# Altium footprint library Header.PcbLib: 119 footprints (part 5 of 8)
Each footprint in its own frame and in the unit in brackets; x right, y up, seen from the top. Pads: shape width x height; smd on the part's side, far side on the other; paste and mask are expansions set on the pad; w line width, h text height; cw(c..) or ccw(c..) is an arc to the next point about the centre after c.
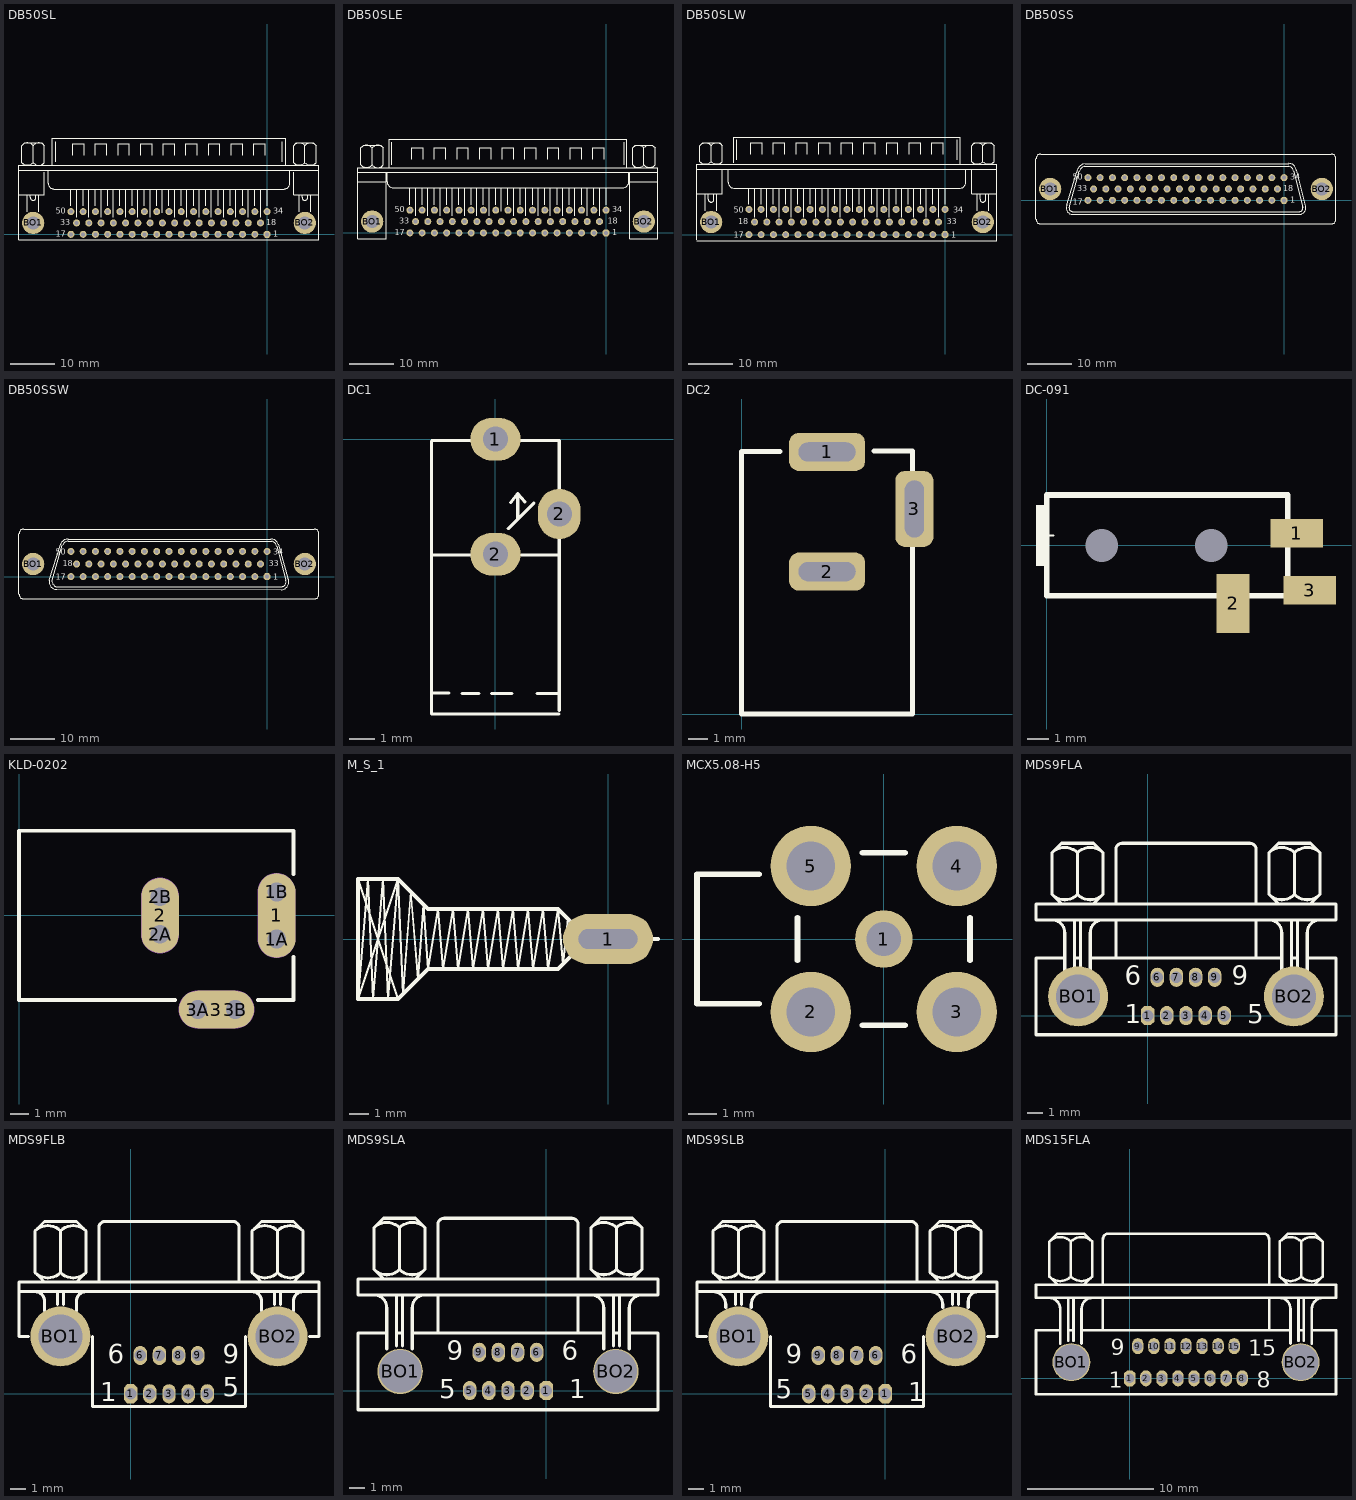
[diagram p4: the footprints below, top view; thin cyan lines are the x and y axes]

## DB50SL [mil]
pads (52):
  oct 62x62 hole 35: 1(0,0)
  round 62 hole 35: 2(-108.33,0) 3(-216.67,0) 4(-325,0) 5(-433.33,0) 6(-541.67,0) 7(-650,0) 8(-758.33,0) 9(-866.67,0) 10(-975,0) 11(-1083.33,0) 12(-1191.67,0) 13(-1300,0) 14(-1408.33,0) 15(-1516.67,0) 16(-1625,0) 17(-1733.33,0) 18(-58.33,100) 19(-166.67,100) 20(-275,100) 21(-383.33,100) 22(-491.67,100) 23(-600,100) 24(-708.33,100) 25(-816.67,100) 26(-925,100) 27(-1033.33,100) 28(-1141.67,100) 29(-1250,100) 30(-1358.33,100) 31(-1466.67,100) 32(-1575,100) 33(-1683.33,100) 34(0,200) 35(-108.33,200) 36(-216.67,200) 37(-325,200) 38(-433.33,200) 39(-541.67,200) 40(-650,200) 41(-758.33,200) 42(-866.67,200) 43(-975,200) 44(-1083.33,200) 45(-1191.67,200) 46(-1300,200) 47(-1408.33,200) 48(-1516.67,200) 49(-1625,200) 50(-1733.33,200)
  round 196.67 hole 118.33: BO1(-2066.67,100) BO2(333.33,100)
Top Overlay:
  lines w8: -2191.67,350 -1966.67,350 -1966.67,550 ; -2191.67,566.67 458.33,566.67 ; -2166.75,633.25 ccw(c-2116.67,683.33) -2066.58,633.25 ; -2166.46,783.45 cw(c-2116.67,741.67) -2066.87,783.45 ; -2141.67,608.33 -2166.67,633.33 -2166.67,783.33 -2141.67,808.33 -1991.67,808.33 -1966.67,783.33 -1966.67,633.33 -1991.67,608.33 ; -2116.67,200 -2116.67,350 ; -2091.67,350 -2091.67,325 ccw(c-2066.67,325) -2041.67,325 -2041.67,350 ; -2066.67,633.33 -2066.67,783.33 ; -2066.46,633.22 ccw(c-2016.67,675) -1966.87,633.22 ; -2066.46,783.45 cw(c-2016.67,741.67) -1966.87,783.45 ; -2016.67,200 -2016.67,350 ; -1933.33,566.67 -1933.33,450 ccw(c-1883.33,450) -1883.33,400 150,400 ccw(c150,450) 200,450 200,566.67 ; -1900,608.33 -1900,850 166.67,850 166.67,608.33 ; -1866.67,641.67 -1866.67,816.67 ; -1733.33,250 -1733.33,400 ; -1716.67,700 -1716.67,800 -1616.67,800 -1616.67,700 ; -1683.33,150 -1683.33,400 ; -1625,250 -1625,400 ; -1575,150 -1575,400 ; -1516.67,250 -1516.67,400 ; -1516.67,700 -1516.67,800 -1416.67,800 -1416.67,700 ; -1466.67,150 -1466.67,400 ; -1408.33,250 -1408.33,400 ; -1358.33,150 -1358.33,400 ; -1316.67,700 -1316.67,800 -1216.67,800 -1216.67,700 ; -1300,250 -1300,400 ; -1250,150 -1250,400 ; -1191.67,250 -1191.67,400 ; -1141.67,150 -1141.67,400 ; -1116.67,700 -1116.67,800 -1016.67,800 -1016.67,700 ; -1083.33,250 -1083.33,400 ; -1033.33,150 -1033.33,400 ; -975,250 -975,400 ; -925,191.67 -925,400 ; -916.67,700 -916.67,800 -816.67,800 -816.67,700 ; -866.67,250 -866.67,400 ; -816.67,150 -816.67,400 ; -758.33,250 -758.33,400 ; -716.67,700 -716.67,800 -616.67,800 -616.67,700 ; -708.33,150 -708.33,400 ; -650,250 -650,400 ; -600,150 -600,400 ; -541.67,250 -541.67,400 ; -516.67,700 -516.67,800 -416.67,800 -416.67,700 ; -491.67,150 -491.67,400 ; -433.33,250 -433.33,400 ; -383.33,150 -383.33,400 ; -325,250 -325,400 ; -316.67,700 -316.67,800 -216.67,800 -216.67,700 ; -275,150 -275,400 ; -216.67,250 -216.67,400 ; -166.67,150 -166.67,400 ; -116.67,700 -116.67,800 -16.67,800 -16.67,700 ; -108.33,250 -108.33,400 ; -58.33,150 -58.33,400 ; 0,250 0,400 ; 133.33,641.67 133.33,816.67 ; 233.25,633.25 ccw(c283.33,683.33) 333.42,633.25 ; 233.25,783.42 cw(c283.33,733.33) 333.42,783.42 ; 233.33,550 233.33,350 458.33,350 ; 258.33,608.33 250,616.67 233.33,633.33 233.33,783.33 258.33,808.33 408.33,808.33 433.33,783.33 433.33,633.33 408.33,608.33 ; 283.33,200 283.33,350 ; 308.33,350 308.33,325 ccw(c333.33,325) 358.33,325 358.33,350 ; 333.25,633.25 ccw(c383.33,683.33) 433.42,633.25 ; 333.25,783.42 cw(c383.33,733.33) 433.42,783.42 ; 333.33,633.33 333.33,783.33 ; 383.33,200 383.33,350 ; -2191.67,-50 -2191.67,608.33 458.33,608.33 458.33,-50 -2191.67,-50
  text "50" at -1866.67,180 h50
  text "33" at -1826.67,80 h50
  text "17" at -1866.67,-20 h50
  text "1" at 53.33,-20 h50
  text "18" at -6.67,80 h50
  text "34" at 53.33,180 h50

## DB50SLE [mil]
pads (52):
  oct 62x62 hole 35: 1(0,0)
  round 62 hole 35: 2(-108.33,0) 3(-216.67,0) 4(-325,0) 5(-433.33,0) 6(-541.67,0) 7(-650,0) 8(-758.33,0) 9(-866.67,0) 10(-975,0) 11(-1083.33,0) 12(-1191.67,0) 13(-1300,0) 14(-1408.33,0) 15(-1516.67,0) 16(-1625,0) 17(-1733.33,0) 18(-58.33,100) 19(-166.67,100) 20(-275,100) 21(-383.33,100) 22(-491.67,100) 23(-600,100) 24(-708.33,100) 25(-816.67,100) 26(-925,100) 27(-1033.33,100) 28(-1141.67,100) 29(-1250,100) 30(-1358.33,100) 31(-1466.67,100) 32(-1575,100) 33(-1683.33,100) 34(0,200) 35(-108.33,200) 36(-216.67,200) 37(-325,200) 38(-433.33,200) 39(-541.67,200) 40(-650,200) 41(-758.33,200) 42(-866.67,200) 43(-975,200) 44(-1083.33,200) 45(-1191.67,200) 46(-1300,200) 47(-1408.33,200) 48(-1516.67,200) 49(-1625,200) 50(-1733.33,200)
  round 196.67 hole 118.33: BO1(-2066.67,100) BO2(333.33,100)
Top Overlay:
  lines w8: -2191.67,450 -1941.67,450 ; -2191.67,533.33 458.33,533.33 ; -2166.75,599.91 ccw(c-2116.67,650) -2066.58,599.91 ; -2166.46,750.11 cw(c-2116.67,708.33) -2066.87,750.11 ; -2141.67,575 -2166.67,600 -2166.67,750 -2141.67,775 -1991.67,775 -1966.67,750 -1966.67,600 -1991.67,575 ; -2066.67,600 -2066.67,750 ; -2066.46,599.88 ccw(c-2016.67,641.67) -1966.87,599.88 ; -2066.46,750.11 cw(c-2016.67,708.33) -1966.87,750.11 ; -1941.67,533.33 -1941.67,-50 -2191.67,-50 -2191.67,575 458.33,575 458.33,-50 208.33,-50 208.33,533.33 ; -1933.33,533.33 -1933.33,450 ccw(c-1883.33,450) -1883.33,400 150,400 ccw(c150,450) 200,450 200,533.33 ; -1916.67,575 -1916.67,825 183.33,825 183.33,575 ; -1891.67,600 -1891.67,800 ; -1733.33,250 -1733.33,400 ; -1716.67,650 -1716.67,750 -1616.67,750 -1616.67,650 ; -1683.33,150 -1683.33,400 ; -1625,250 -1625,400 ; -1575,150 -1575,400 ; -1516.67,250 -1516.67,400 ; -1516.67,650 -1516.67,750 -1416.67,750 -1416.67,650 ; -1466.67,150 -1466.67,400 ; -1408.33,250 -1408.33,400 ; -1358.33,150 -1358.33,400 ; -1316.67,650 -1316.67,750 -1216.67,750 -1216.67,650 ; -1300,250 -1300,400 ; -1250,150 -1250,400 ; -1191.67,250 -1191.67,400 ; -1141.67,150 -1141.67,400 ; -1116.67,650 -1116.67,750 -1016.67,750 -1016.67,650 ; -1083.33,250 -1083.33,400 ; -1033.33,150 -1033.33,400 ; -975,250 -975,400 ; -925,191.67 -925,400 ; -916.67,650 -916.67,750 -816.67,750 -816.67,650 ; -866.67,250 -866.67,400 ; -816.67,150 -816.67,400 ; -758.33,250 -758.33,400 ; -716.67,650 -716.67,750 -616.67,750 -616.67,650 ; -708.33,150 -708.33,400 ; -650,250 -650,400 ; -600,150 -600,400 ; -541.67,250 -541.67,400 ; -516.67,650 -516.67,750 -416.67,750 -416.67,650 ; -491.67,150 -491.67,400 ; -433.33,250 -433.33,400 ; -383.33,150 -383.33,400 ; -325,250 -325,400 ; -316.67,650 -316.67,750 -216.67,750 -216.67,650 ; -275,150 -275,400 ; -216.67,250 -216.67,400 ; -166.67,150 -166.67,400 ; -116.67,650 -116.67,750 -16.67,750 -16.67,650 ; -108.33,250 -108.33,400 ; -58.33,150 -58.33,400 ; 0,250 0,400 ; 158.33,600 158.33,800 ; 208.33,450 458.33,450 ; 233.25,599.91 ccw(c283.33,650) 333.42,599.91 ; 233.25,750.09 cw(c283.33,700) 333.42,750.09 ; 258.33,575 233.33,600 233.33,750 258.33,775 408.33,775 433.33,750 433.33,600 408.33,575 ; 333.25,599.91 ccw(c383.33,650) 433.42,599.91 ; 333.25,750.09 cw(c383.33,700) 433.42,750.09 ; 333.33,600 333.33,750
  text "34" at 53.33,180 h50
  text "18" at 13.33,80 h50
  text "1" at 53.33,-20 h50
  text "17" at -1866.67,-20 h50
  text "33" at -1826.67,80 h50
  text "50" at -1866.67,180 h50

## DB50SLW [mil]
pads (52):
  oct 62x62 hole 35: 1(0,0)
  round 62 hole 35: 2(-108.33,0) 3(-216.67,0) 4(-325,0) 5(-433.33,0) 6(-541.67,0) 7(-650,0) 8(-758.33,0) 9(-866.67,0) 10(-975,0) 11(-1083.33,0) 12(-1191.67,0) 13(-1300,0) 14(-1408.33,0) 15(-1516.67,0) 16(-1625,0) 17(-1733.33,0) 18(-1683.33,111.67) 19(-1575,111.67) 20(-1466.67,111.67) 21(-1358.33,111.67) 22(-1250,111.67) 23(-1141.67,111.67) 24(-1033.33,111.67) 25(-925,111.67) 26(-816.67,111.67) 27(-708.33,111.67) 28(-600,111.67) 29(-491.67,111.67) 30(-383.33,111.67) 31(-275,111.67) 32(-166.67,111.67) 33(-58.33,111.67) 34(0,223.33) 35(-108.33,223.33) 36(-216.67,223.33) 37(-325,223.33) 38(-433.33,223.33) 39(-541.67,223.33) 40(-650,223.33) 41(-758.33,223.33) 42(-866.67,223.33) 43(-975,223.33) 44(-1083.33,223.33) 45(-1191.67,223.33) 46(-1300,223.33) 47(-1408.33,223.33) 48(-1516.67,223.33) 49(-1625,223.33) 50(-1733.33,223.33)
  round 196.67 hole 118.33: BO1(-2066.67,111.67) BO2(333.33,111.67)
Top Overlay:
  lines w8: -2191.67,-55 458.33,-55 458.33,620 -2191.67,620 -2191.67,-46.67 ; -2191.67,361.67 -1966.67,361.67 -1966.67,578.33 ; -2191.67,578.33 458.33,578.33 ; -2166.75,644.91 ccw(c-2116.67,695) -2066.58,644.91 ; -2166.75,786.75 cw(c-2116.67,736.67) -2066.58,786.75 ; -2141.67,620 -2166.67,645 -2166.67,786.67 -2141.67,811.67 -1991.67,811.67 -1966.67,786.67 -1966.67,778.33 -1966.67,645 -1991.67,620 ; -2116.67,211.67 -2116.67,361.67 ; -2091.67,361.67 -2091.67,311.67 ccw(c-2066.67,311.67) -2041.67,311.67 -2041.67,361.67 ; -2066.75,644.91 ccw(c-2016.67,695) -1966.58,644.91 ; -2066.75,786.75 cw(c-2016.67,736.67) -1966.58,786.75 ; -2066.67,645 -2066.67,786.67 ; -2016.67,211.67 -2016.67,361.67 ; -1916.67,578.33 -1916.67,461.67 ccw(c-1866.67,461.67) -1866.67,411.67 133.33,411.67 ccw(c133.33,461.67) 183.33,461.67 183.33,578.33 ; -1866.67,636.67 -1866.67,861.67 133.33,861.67 133.33,620 ; -1841.67,661.67 -1841.67,836.67 ; -1733.33,270 -1733.33,411.67 ; -1716.67,711.67 -1716.67,811.67 -1616.67,811.67 -1616.67,711.67 ; -1683.33,153.33 -1683.33,411.67 ; -1625,270 -1625,411.67 ; -1575,153.33 -1575,411.67 ; -1516.67,270 -1516.67,411.67 ; -1516.67,711.67 -1516.67,811.67 -1416.67,811.67 -1416.67,711.67 ; -1466.67,153.33 -1466.67,411.67 ; -1408.33,270 -1408.33,411.67 ; -1358.33,153.33 -1358.33,411.67 ; -1316.67,711.67 -1316.67,811.67 -1216.67,811.67 -1216.67,711.67 ; -1300,270 -1300,411.67 ; -1250,153.33 -1250,411.67 ; -1191.67,270 -1191.67,411.67 ; -1141.67,153.33 -1141.67,411.67 ; -1116.67,711.67 -1116.67,811.67 -1016.67,811.67 -1016.67,711.67 ; -1083.33,270 -1083.33,411.67 ; -1033.33,153.33 -1033.33,411.67 ; -975,270 -975,411.67 ; -925,153.33 -925,411.67 ; -916.67,711.67 -916.67,811.67 -816.67,811.67 -816.67,711.67 ; -866.67,270 -866.67,411.67 ; -816.67,203.33 -816.67,411.67 ; -758.33,270 -758.33,411.67 ; -716.67,711.67 -716.67,811.67 -616.67,811.67 -616.67,711.67 ; -708.33,153.33 -708.33,411.67 ; -650,270 -650,411.67 ; -600,153.33 -600,411.67 ; -541.67,270 -541.67,411.67 ; -516.67,711.67 -516.67,811.67 -416.67,811.67 -416.67,711.67 ; -491.67,153.33 -491.67,411.67 ; -433.33,270 -433.33,411.67 ; -383.33,153.33 -383.33,411.67 ; -325,270 -325,411.67 ; -316.67,711.67 -316.67,811.67 -216.67,811.67 -216.67,711.67 ; -275,153.33 -275,411.67 ; -216.67,270 -216.67,411.67 ; -166.67,153.33 -166.67,411.67 ; -116.67,711.67 -116.67,811.67 -16.67,811.67 -16.67,711.67 ; -108.33,270 -108.33,411.67 ; -58.33,153.33 -58.33,411.67 ; 0,270 0,411.67 ; 108.33,661.67 108.33,836.67 ; 233.25,644.91 ccw(c283.33,695) 333.42,644.91 ; 233.25,786.75 cw(c283.33,736.67) 333.42,786.75 ; 233.33,578.33 233.33,361.67 458.33,361.67 ; 258.33,620 233.33,645 233.33,786.67 258.33,811.67 408.33,811.67 433.33,786.67 433.33,778.33 433.33,645 408.33,620 ; 283.33,211.67 283.33,361.67 ; 308.33,361.67 308.33,311.67 ccw(c333.33,311.67) 358.33,311.67 358.33,361.67 ; 333.25,644.91 ccw(c383.33,695) 433.42,644.91 ; 333.25,786.75 cw(c383.33,736.67) 433.42,786.75 ; 333.33,645 333.33,786.67 ; 383.33,211.67 383.33,361.67
  text "34" at 73.33,191.67 h50
  text "33" at 13.33,91.67 h50
  text "1" at 53.33,-28.33 h50
  text "17" at -1866.67,-28.33 h50
  text "18" at -1826.67,91.67 h50
  text "50" at -1866.67,191.67 h50

## DB50SS [mil]
pads (52):
  oct 62x62 hole 35: 1(0,0)
  round 62 hole 35: 2(-108.33,0) 3(-216.67,0) 4(-325,0) 5(-433.33,0) 6(-541.67,0) 7(-650,0) 8(-758.33,0) 9(-866.67,0) 10(-975,0) 11(-1083.33,0) 12(-1191.67,0) 13(-1300,0) 14(-1408.33,0) 15(-1516.67,0) 16(-1625,0) 17(-1733.33,0) 18(-58.33,100) 19(-166.67,100) 20(-275,100) 21(-383.33,100) 22(-491.67,100) 23(-600,100) 24(-708.33,100) 25(-816.67,100) 26(-925,100) 27(-1033.33,100) 28(-1141.67,100) 29(-1250,100) 30(-1358.33,100) 31(-1466.67,100) 32(-1575,100) 33(-1683.33,100) 34(0,200) 35(-108.33,200) 36(-216.67,200) 37(-325,200) 38(-433.33,200) 39(-541.67,200) 40(-650,200) 41(-758.33,200) 42(-866.67,200) 43(-975,200) 44(-1083.33,200) 45(-1191.67,200) 46(-1300,200) 47(-1408.33,200) 48(-1516.67,200) 49(-1625,200) 50(-1733.33,200)
  round 196.67 hole 118.33: BO1(-2066.67,100) BO2(333.33,100)
Top Overlay:
  lines w8: -1920,-41.67 -1833.33,250 ; -1918.64,-40.18 ccw(c-1866.67,-66.67) -1866.67,-125 133.33,-125 ccw(c133.33,-66.67) 189.41,-50.59 ; -1833.58,249.54 cw(c-1741.67,233.33) -1765.82,323.49 ; -1808.33,258.33 -1900,-66.67 ccw(c-1866.67,-66.67) -1866.67,-100 133.33,-100 ccw(c133.33,-66.67) 165.04,-56.37 ; -1807.79,258.72 cw(c-1741.67,233.33) -1767.05,299.46 ; -1766.67,300 41.67,300 ; -1758.33,325 41.67,325 ; 41.29,300.21 cw(c33.33,250) 83.54,257.95 ; 41.67,325.83 cw(c41.67,258.33) 108.66,266.56 ; 83.33,258.33 166.67,-66.67 ; 108.33,266.67 188.33,-51.67 ; -2191.66,-166.67 ccw(c-2150,-166.67) -2150,-208.33 416.67,-208.33 ccw(c416.67,-166.67) 458.33,-166.67 458.33,366.67 ccw(c416.67,366.67) 416.67,408.33 -2150,408.33 ccw(c-2150,366.67) -2191.66,366.67 -2191.67,-166.67
  text "50" at -1866.67,180 h50
  text "33" at -1826.67,80 h50
  text "17" at -1866.67,-40 h50
  text "1" at 53.33,-20 h50
  text "18" at -6.67,80 h50
  text "34" at 53.33,180 h50

## DB50SSW [mil]
pads (52):
  oct 62x62 hole 35: 1(0,0)
  round 62 hole 35: 2(-108.33,0) 3(-216.67,0) 4(-325,0) 5(-433.33,0) 6(-541.67,0) 7(-650,0) 8(-758.33,0) 9(-866.67,0) 10(-975,0) 11(-1083.33,0) 12(-1191.67,0) 13(-1300,0) 14(-1408.33,0) 15(-1516.67,0) 16(-1625,0) 17(-1733.33,0) 18(-1683.33,111.67) 19(-1575,111.67) 20(-1466.67,111.67) 21(-1358.33,111.67) 22(-1250,111.67) 23(-1141.67,111.67) 24(-1033.33,111.67) 25(-925,111.67) 26(-816.67,111.67) 27(-708.33,111.67) 28(-600,111.67) 29(-491.67,111.67) 30(-383.33,111.67) 31(-275,111.67) 32(-166.67,111.67) 33(-58.33,111.67) 34(0,223.33) 35(-108.33,223.33) 36(-216.67,223.33) 37(-325,223.33) 38(-433.33,223.33) 39(-541.67,223.33) 40(-650,223.33) 41(-758.33,223.33) 42(-866.67,223.33) 43(-975,223.33) 44(-1083.33,223.33) 45(-1191.67,223.33) 46(-1300,223.33) 47(-1408.33,223.33) 48(-1516.67,223.33) 49(-1625,223.33) 50(-1733.33,223.33)
  round 196.67 hole 118.33: BO1(-2066.67,111.67) BO2(333.33,111.67)
Top Overlay:
  lines w8: -1923.33,-31.67 -1825,286.67 ; -1923.02,-30.54 ccw(c-1858.33,-46.67) -1858.33,-113.33 125,-115 ; -1900.21,-30.38 ccw(c-1850,-38.33) -1859.7,-88.23 ; -1900,-30 -1808.33,278.33 ; -1866.67,-88.33 133.33,-88.33 ; -1824.46,287.05 cw(c-1758.33,261.67) -1758.33,332.5 ; -1804.69,280.4 cw(c-1758.33,261.67) -1758.33,311.67 41.67,311.67 ; -1758.33,331.67 33.33,331.67 ; 33.33,332.5 cw(c33.33,261.67) 99.46,287.05 ; 40.41,312 cw(c33.33,261.67) 83.54,269.62 ; 83.33,270 166.67,-30 ; 100,286.67 183.33,-13.33 ; 125,-114.17 ccw(c125,-46.67) 183.46,-12.92 ; 133.11,-88.39 ccw(c125,-46.67) 164.41,-30.75 ; -2191.66,-155 ccw(c-2150,-155) -2150,-196.67 416.67,-196.67 ccw(c416.67,-155) 458.33,-155 458.33,378.33 ccw(c416.67,378.33) 416.67,420 -2150,420 ccw(c-2150,378.33) -2191.66,378.33 -2191.67,-155
  text "34" at 53.33,191.67 h50
  text "33" at 13.33,91.67 h50
  text "1" at 53.33,-28.33 h50
  text "18" at -1806.67,91.67 h50
  text "50" at -1866.67,191.67 h50
  text "17" at -1866.67,-28.33 h50

## DC1 [mm]
pads (3):
  oval 2x1.7 hole 1: 1(0,0) 2(0,-4.572)
  oval 1.7x2 hole 1: 2(2.54,-2.972)
Top Overlay:
  lines w0.127: -2.54,-10.084 -1.854,-10.084 ; -2.54,-4.597 -0.94,-4.597 ; -1.321,-10.109 -0.66,-10.109 ; -0.152,-10.109 0.66,-10.109 ; 0.508,-3.556 1.524,-2.54 ; 0.61,-2.515 0.89,-2.158 ; 0.89,-3.174 0.89,-2.158 ; 1.016,-4.597 2.54,-4.597 ; 1.168,-2.489 0.89,-2.16 0.89,-2.158 ; 1.651,-10.109 2.54,-10.109 ; 2.489,-0.051 -2.515,-0.051 -2.54,-0.076 -2.54,-10.922 2.515,-10.922 ; 2.54,-10.77 2.54,-0.051

## DC2 [mm]
pads (3):
  rrect50% 4x2 hole 1 slot 3 at 0 deg: 1(4.5,13.8) 2(4.5,7.5)
  rrect50% 2x4 hole 1 slot 3 at 90 deg: 3(9.1,10.8)
Top Overlay:
  lines w0.254: 2.018,13.818 0,13.818 0,0 9,0 9,8.8 ; 6.957,13.843 9,13.843 9,12.8
3D body: height 11.02, standoff -3.48, extent -0.003,0.017 9.503,13.843

## DC-091 [mm]
pads (5):
  round 0 hole 1.5 mask+0: 0(2.5,0) 0(7.5,0)
  rect 2.4x1.3 smd: 1(11.4,0.55) 3(12,-2.05)
  rect 1.5x2.7 smd: 2(8.5,-2.65)
Top Overlay:
  rectangle: -0.5,-0.95 0.1,1.85
  lines w0.1: -0.2,0.45 0.3,0.45
  lines w0.254: 0,-2.3 0,2.3 11,2.3 11,-2.3 0,-2.3
3D body: height 4.4, standoff -0.8, extent 0.025,-3.875 12.625,2.425

## KLD-0202 [mm] "DC Power Jack, 2.5mm, KLD Series, PCB Mount"
pads (9):
  oval 2x4.5 all layers, no hole: 1(13.7,0)
  round 1.5 hole 1: 1A(13.7,-1.25) 1B(13.7,1.25) 2A(7.5,-1) 2B(7.5,1) 3A(9.5,-5) 3B(11.5,-5)
  oval 2x4 all layers, no hole: 2(7.5,0)
  oval 4x2 all layers, no hole: 3(10.5,-5)
Top Overlay:
  lines w0.2: 8.3,-4.5 0,-4.5 0,4.5 14.6,4.5 14.6,2.2 ; 12.7,-4.5 14.6,-4.5 14.6,-2.2
Mechanical 1:
  lines w1: 7.5,-1 7.5,1 ; 9.5,-5 11.5,-5 ; 13.7,-1.25 13.7,1.25
  text "Mech 2 - Clearance, move to internal plane if present" at 0.286,5.066 h0.3
  text "Mech 1 - Slot cut-out" at 0.286,5.566 h0.3
  text "Assign keep-out area to slot" at 0.286,6.566 h0.3
  text "Alert PCB fab to slot details" at 0.286,6.066 h0.3
Mechanical 2:
  lines w2.016: 7.5,-1 7.5,1 ; 9.5,-5 11.5,-5 ; 13.7,-1.25 13.7,1.25

## M_S_1 [mil] "带弹簧强磁，6mm×18mm×10mm"
pads (1):
  oval 180x100 hole 39.37 slot 118.11 at 0 deg: 1(0,0)
Top Overlay:
  lines w3.94: -500,120 -420,-120 ; -80,40 -90,-50 -100,60 -120,-60 -130,60 -150,-60 -160,60 -180,-60 -190,60 -210,-60 -220,60 -240,-60 -250,60 -270,-60 -280,60 -300,-60 -310,60 -330,-60 -340,60 -360,-60 -368.55,68.55 -380,-80 -394.48,94.48 -410,-110 -420,120 ; -420,120 -440,-120 -450,120 -470,-120 -480,120 -500,-120 -420,120
  lines w7.87: 60,0 100,0 ; -500,-120 -500,120 -420,120 -360,60 -100,60 -70,30 -70,0 -70,-30 -100,-60 -360,-60 -420,-120 -500,-120

## MCX5.08-H5 [mm] "Connector; RF Coaxial, MCX, Thru-Hole; 5 Position; Right-Angle"
height 5.85
pads (5):
  round 2 hole 1.2: 1(0,0)
  round 2.8 hole 1.7: 2(-2.54,-2.54) 3(2.54,-2.54) 4(2.54,2.54) 5(-2.54,2.54)
Top Overlay:
  lines w0.2: -4.34,-2.25 -6.5,-2.25 -6.5,2.25 -4.34,2.25 ; -3,-0.74 -3,0.74 ; -0.74,-3 0.74,-3 ; -0.74,3 0.74,3 ; 3,-0.74 3,0.74

## MDS9FLA [mil]
pads (11):
  oct 35x50 hole 30: 1(0,0)
  oval 35x50 hole 30: 2(50,0) 3(100,0) 4(150,0) 5(200,0) 6(25,100) 7(75,100) 8(125,100) 9(175,100)
  round 156.67 hole 115: BO1(-181.67,50) BO2(381.67,50)
Top Overlay:
  lines w8: -250.25,316.41 ccw(c-216.67,350) -183.08,316.41 ; -250.25,425.25 cw(c-216.67,391.67) -183.08,425.25 ; -250,250 cw(c-250,216.67) -216.67,216.67 -216.67,108.33 ; -225,291.67 -250,316.67 -250,425 -225,450 -141.67,450 -116.67,425 -116.67,316.67 -141.67,291.67 ; -216.67,150 -291.67,150 -291.67,-50 491.67,-50 491.67,150 416.67,150 ; -191.67,116.67 -191.67,250 ; -191.67,150 -175,150 ; -183.59,316.41 ccw(c-150,350) -116.41,316.41 ; -183.59,425.25 cw(c-150,391.67) -116.41,425.25 ; -183.33,316.67 -183.33,425 ; -175,116.67 -175,250 ; -150,108.33 -150,216.67 cw(c-116.67,216.67) -116.67,250 ; -150,150 350,150 ; -83.33,150 -83.33,250 ; -83.33,291.67 -83.33,433.33 cw(c-66.67,433.33) -66.67,450 266.67,450 cw(c266.67,433.33) 283.33,433.33 283.33,291.67 275,291.67 ; 283.33,150 283.33,250 ; 316.41,316.41 ccw(c350,350) 383.59,316.41 ; 316.41,425.25 cw(c350,391.67) 383.59,425.25 ; 316.67,250 cw(c316.67,216.67) 350,216.67 350,108.33 ; 341.67,291.67 316.67,316.67 316.67,425 341.67,450 425,450 450,425 450,316.67 425,291.67 ; 375,116.67 375,250 ; 375,150 391.67,150 ; 383.08,316.41 ccw(c416.67,350) 450.25,316.41 ; 383.08,425.25 cw(c416.67,391.67) 450.25,425.25 ; 383.33,316.67 383.33,425 ; 391.67,116.67 391.67,250 ; 416.67,108.33 416.67,216.67 cw(c450,216.67) 450,250 ; -291.67,250 491.67,250 491.67,291.67 -291.67,291.67 -291.67,250
  text "1" at -60,-20 h50
  text "9" at 220,80 h50
  text "5" at 260,-20 h50
  text "6" at -60,80 h50

## MDS9FLB [mil]
pads (11):
  oct 35x50 hole 30: 1(0,0)
  oval 35x50 hole 30: 2(50,0) 3(100,0) 4(150,0) 5(200,0) 6(25,100) 7(75,100) 8(125,100) 9(175,100)
  round 156.67 hole 115: BO1(-183.33,150) BO2(383.33,150)
Top Overlay:
  lines w8: -266.67,150 -291.67,150 -291.67,266.67 ; -250.25,316.41 ccw(c-216.67,350) -183.08,316.41 ; -250.25,425.25 cw(c-216.67,391.67) -183.08,425.25 ; -250,266.67 cw(c-250,241.67) -225,241.67 -225,216.67 ; -225,291.67 -250,316.67 -250,425 -225,450 -141.67,450 -116.67,425 -116.67,316.67 -141.67,291.67 ; -191.67,233.33 -191.67,266.67 ; -183.59,316.41 ccw(c-150,350) -116.41,316.41 ; -183.59,425.25 cw(c-150,391.67) -116.41,425.25 ; -183.33,316.67 -183.33,425 ; -175,233.33 -175,266.67 ; -141.67,216.67 -141.67,241.67 cw(c-116.67,241.67) -116.67,266.67 ; -100,150 -100,-33.33 300,-33.33 300,150 ; -83.33,291.67 -83.33,433.33 cw(c-66.67,433.33) -66.67,450 266.67,450 cw(c266.67,433.33) 283.33,433.33 283.33,291.67 275,291.67 ; 316.41,316.41 ccw(c350,350) 383.59,316.41 ; 316.41,425.25 cw(c350,391.67) 383.59,425.25 ; 316.67,266.67 cw(c316.67,241.67) 341.67,241.67 341.67,216.67 ; 341.67,291.67 316.67,316.67 316.67,425 341.67,450 425,450 450,425 450,316.67 425,291.67 ; 375,233.33 375,266.67 ; 383.08,316.41 ccw(c416.67,350) 450.25,316.41 ; 383.08,425.25 cw(c416.67,391.67) 450.25,425.25 ; 383.33,316.67 383.33,425 ; 391.67,233.33 391.67,266.67 ; 425,216.67 425,241.67 cw(c450,241.67) 450,266.67 ; 466.67,150 491.67,150 491.67,266.67 ; -291.67,266.67 -291.67,291.67 491.67,291.67 491.67,266.67 ; -291.67,266.67 491.67,266.67
  text "9" at 240,80 h50
  text "6" at -60,80 h50
  text "1" at -80,-20 h50
  text "5" at 240.94,-6.59 h50

## MDS9SLA [mil]
pads (11):
  oct 35x50 hole 30: 1(0,0)
  oval 35x50 hole 30: 2(-50,0) 3(-100,0) 4(-150,0) 5(-200,0) 6(-25,100) 7(-75,100) 8(-125,100) 9(-175,100)
  round 118.33 hole 110.83: BO1(-381.67,50) BO2(181.67,50)
Top Overlay:
  lines w8: -450.25,316.41 ccw(c-416.67,350) -383.08,316.41 ; -450.25,425.25 cw(c-416.67,391.67) -383.08,425.25 ; -450,250 cw(c-450,216.67) -416.67,216.67 -416.67,108.33 ; -425,291.67 -450,316.67 -450,425 -425,450 -341.67,450 -316.67,425 -316.67,316.67 -341.67,291.67 ; -416.67,150 -491.67,150 -491.67,-50 291.67,-50 291.67,150 216.67,150 ; -391.67,116.67 -391.67,250 ; -391.67,150 -375,150 ; -383.59,316.41 ccw(c-350,350) -316.41,316.41 ; -383.59,425.25 cw(c-350,391.67) -316.41,425.25 ; -383.33,316.67 -383.33,425 ; -375,116.67 -375,250 ; -350,108.33 -350,216.67 cw(c-316.67,216.67) -316.67,250 ; -350,150 150,150 ; -283.33,150 -283.33,250 ; -283.33,291.67 -283.33,433.33 cw(c-266.67,433.33) -266.67,450 66.67,450 cw(c66.67,433.33) 83.33,433.33 83.33,291.67 75,291.67 ; 83.33,150 83.33,250 ; 116.41,316.41 ccw(c150,350) 183.59,316.41 ; 116.41,425.25 cw(c150,391.67) 183.59,425.25 ; 116.67,250 cw(c116.67,216.67) 150,216.67 150,108.33 ; 141.67,291.67 116.67,316.67 116.67,425 141.67,450 225,450 250,425 250,316.67 225,291.67 ; 175,116.67 175,250 ; 175,150 191.67,150 ; 183.08,316.41 ccw(c216.67,350) 250.25,316.41 ; 183.08,425.25 cw(c216.67,391.67) 250.25,425.25 ; 183.33,316.67 183.33,425 ; 191.67,116.67 191.67,250 ; 216.67,108.33 216.67,216.67 cw(c250,216.67) 250,250 ; -491.67,250 -491.67,291.67 291.67,291.67 291.67,250 -491.67,250
  text "1" at 60,-20 h50
  text "5" at -280,-20 h50
  text "9" at -260,80 h50
  text "6" at 40,80 h50

## MDS9SLB [mil]
pads (11):
  oct 35x50 hole 30: 1(0,0)
  oval 35x50 hole 30: 2(-50,0) 3(-100,0) 4(-150,0) 5(-200,0) 6(-25,100) 7(-75,100) 8(-125,100) 9(-175,100)
  round 156.67 hole 115: BO1(-383.33,150) BO2(183.33,150)
Top Overlay:
  lines w8: -466.67,150 -491.67,150 -491.67,266.67 ; -450.25,316.41 ccw(c-416.67,350) -383.08,316.41 ; -450.25,425.25 cw(c-416.67,391.67) -383.08,425.25 ; -450,266.67 cw(c-450,233.33) -416.67,233.33 -416.67,225 ; -425,291.67 -450,316.67 -450,425 -425,450 -341.67,450 -316.67,425 -316.67,316.67 -341.67,291.67 ; -391.67,233.33 -391.67,266.67 ; -383.59,316.41 ccw(c-350,350) -316.41,316.41 ; -383.59,425.25 cw(c-350,391.67) -316.41,425.25 ; -383.33,316.67 -383.33,425 ; -375,233.33 -375,266.67 ; -350,225 -350,233.33 cw(c-316.67,233.33) -316.67,266.67 ; -300,150 -300,-33.33 100,-33.33 100,150 ; -283.33,291.67 -283.33,433.33 cw(c-266.67,433.33) -266.67,450 66.67,450 cw(c66.67,433.33) 83.33,433.33 83.33,291.67 75,291.67 ; 116.41,316.41 ccw(c150,350) 183.59,316.41 ; 116.41,425.25 cw(c150,391.67) 183.59,425.25 ; 116.67,266.67 cw(c116.67,233.33) 150,233.33 150,225 ; 141.67,291.67 116.67,316.67 116.67,425 141.67,450 225,450 250,425 250,316.67 225,291.67 ; 175,233.33 175,266.67 ; 183.08,316.41 ccw(c216.67,350) 250.25,316.41 ; 183.08,425.25 cw(c216.67,391.67) 250.25,425.25 ; 183.33,316.67 183.33,425 ; 191.67,233.33 191.67,266.67 ; 216.67,225 216.67,241.67 cw(c241.67,241.67) 241.67,266.67 ; 266.67,150 291.67,150 291.67,266.67 ; -491.67,266.67 -491.67,291.67 291.67,291.67 291.67,266.67 ; -491.67,266.67 291.67,266.67
  text "5" at -286.05,-11.4 h50
  text "1" at 60,-20 h50
  text "9" at -260,80 h50
  text "6" at 40,80 h50

## MDS15FLA [mil]
pads (17):
  oct 35x50 hole 30: 1(0,0)
  oval 35x50 hole 30: 2(50,0) 3(100,0) 4(150,0) 5(200,0) 6(250,0) 7(300,0) 8(350,0) 9(25,100) 10(75,100) 11(125,100) 12(175,100) 13(225,100) 14(275,100) 15(325,100)
  round 118.33 hole 110.83: BO1(-181.67,50) BO2(531.67,50)
Top Overlay:
  lines w8: -250.25,316.41 ccw(c-216.67,350) -183.08,316.41 ; -250.25,425.25 cw(c-216.67,391.67) -183.08,425.25 ; -250,250 cw(c-250,216.67) -216.67,216.67 -216.67,108.33 ; -225,291.67 -250,316.67 -250,425 -225,450 -141.67,450 -116.67,425 -116.67,316.67 -141.67,291.67 ; -216.67,150 -291.67,150 -291.67,-50 641.67,-50 641.67,150 566.67,150 ; -191.67,116.67 -191.67,250 ; -191.67,150 -175,150 ; -183.59,316.41 ccw(c-150,350) -116.41,316.41 ; -183.59,425.25 cw(c-150,391.67) -116.41,425.25 ; -183.33,316.67 -183.33,425 ; -175,116.67 -175,250 ; -150,108.33 -150,216.67 cw(c-116.67,216.67) -116.67,250 ; -150,150 500,150 ; -83.33,150 -83.33,250 ; -83.33,291.67 -83.33,433.33 cw(c-66.67,433.33) -66.67,450 416.67,450 cw(c416.67,433.33) 433.33,433.33 433.33,291.67 425,291.67 ; 433.33,150 433.33,250 ; 466.41,316.41 ccw(c500,350) 533.59,316.41 ; 466.41,425.25 cw(c500,391.67) 533.59,425.25 ; 466.67,250 cw(c466.67,216.67) 500,216.67 500,108.33 ; 491.67,291.67 466.67,316.67 466.67,425 491.67,450 575,450 600,425 600,316.67 575,291.67 ; 525,116.67 525,250 ; 525,150 541.67,150 ; 533.08,316.41 ccw(c566.67,350) 600.25,316.41 ; 533.08,425.25 cw(c566.67,391.67) 600.25,425.25 ; 533.33,316.67 533.33,425 ; 541.67,116.67 541.67,250 ; 566.67,108.33 566.67,216.67 cw(c600,216.67) 600,250 ; -291.67,250 -291.67,291.67 641.67,291.67 641.67,250 -291.67,250
  text "9" at -58.7,72 h50
  text "1" at -65,-30 h50
  text "8" at 395,-30 h50
  text "15" at 368.7,69.7 h50